# Altium footprint library TSOP1838.PcbLib: 1 footprints
Each footprint in its own frame and in the unit in brackets; x right, y up, seen from the top. Pads: shape width x height; smd on the part's side, far side on the other; paste and mask are expansions set on the pad; w line width, h text height; cw(c..) or ccw(c..) is an arc to the next point about the centre after c.
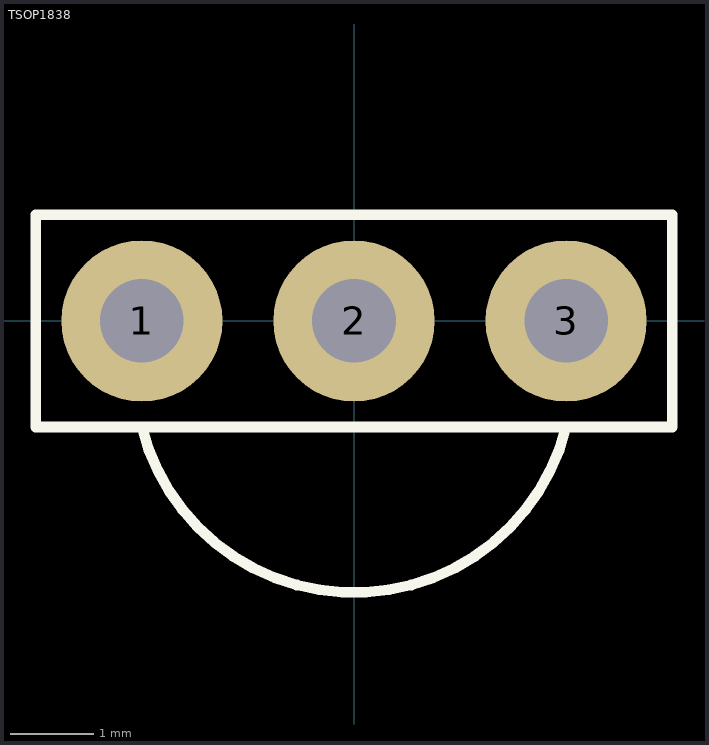
[diagram p0: the footprint, top view; thin cyan lines are the x and y axes]

## TSOP1838 [mil]
pads (3):
  round 76 hole 39.37: 1(-100,0) 2(0,0) 3(100,0)
Top Overlay:
  lines w5: -100.02,-49.94 ccw(c0,-25) 100.02,-49.94 ; -150,-50 -150,50 150,50 150,-50 100,-50 -100,-50 -150,-50
3D body "step_temp.STEP": height 403.54, standoff -816.93, extent -118.11,-158.86 118.11,61.02